# EAGLE library part MC74VHCT50ADTR2G (library pimoroni-ics)
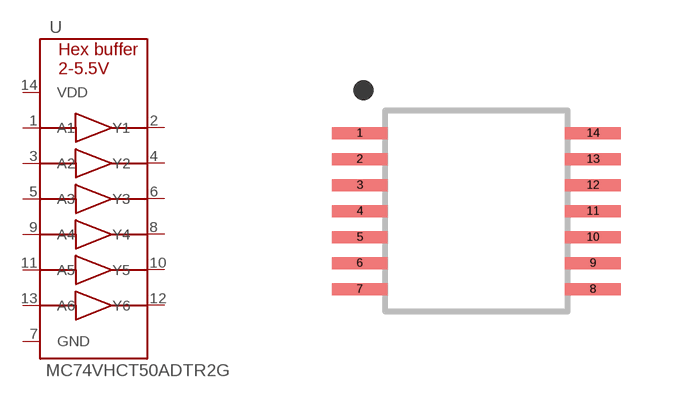
[diagram p74: symbol with the pads of TSSOP-14; footprint TSSOP-14]

Designator prefix U

## MC74VHCT50ADTR2G  [TSSOP-14]
1  A1
2  Y1
3  A2
4  Y2
5  A3
6  Y3
7  GND
8  Y4
9  A4
10  Y5
11  A5
12  Y6
13  A6
14  VDD

## Footprint TSSOP-14 (pad centres in mm)
smd 1.4 x 0.3: 1 -2.918,1.95; 2 -2.918,1.3; 3 -2.918,0.65; 4 -2.918,0; 5 -2.918,-0.65; 6 -2.918,-1.3; 7 -2.918,-1.95; 8 2.918,-1.95; 9 2.918,-1.3; 10 2.918,-0.65; 11 2.918,0; 12 2.918,0.65; 13 2.918,1.3; 14 2.918,1.95